# EAGLE library part TLP621-2 (library myparts)
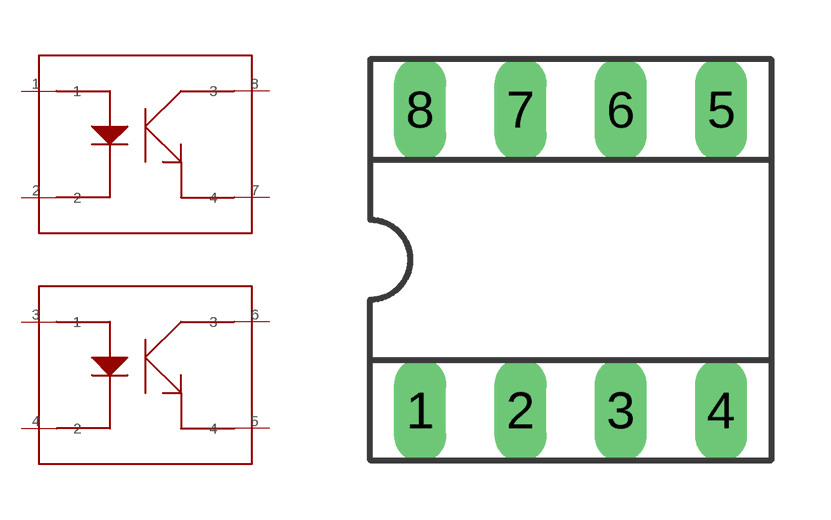
[diagram p18: symbol with the pads of SOCKET-08; footprint SOCKET-08]

Designator prefix -; gates G$1=TPR-105F G$2=TPR-105F

## TLP621-2  [SOCKET-08]
1  G$1:1
2  G$1:2
3  G$2:1
4  G$2:2
5  G$2:4
6  G$2:3
7  G$1:4
8  G$1:3

## Footprint SOCKET-08 (pad centres in mm)
Dual In Line Socket
drill 0.813 long: 1 -3.81,-3.81; 2 -1.27,-3.81; 3 1.27,-3.81; 4 3.81,-3.81; 5 3.81,3.81; 6 1.27,3.81; 7 -1.27,3.81; 8 -3.81,3.81